# EAGLE library part MARDUINO_D8-13 (library Arduino-shield-scaffolds)
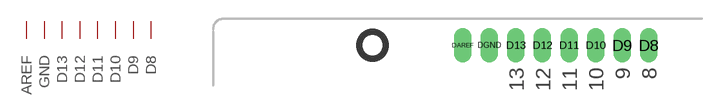
[diagram p2: symbol with the pads of MARDUINO_D8-AREF; footprint MARDUINO_D8-AREF]

Designator prefix -; gates G$1=ARDUINO-D8-13 G$2=ARDUINO-DGND G$3=ARDUINO-AREF

## MARDUINO_D8-13  [MARDUINO_D8-AREF]
D8  G$1:D8
D9  G$1:D9
D10  G$1:D10
D11  G$1:D11
D12  G$1:D12
D13  G$1:D13
DAREF  G$3:AREF  pas
DGND  G$2:GND  pwr

## Footprint MARDUINO_D8-AREF (pad centres in mm)
Arduino Modular Shield Scaffold Digital pins 8..15, AREF and GND
drill 1.1 long: D8 41.656,50.8; D9 39.116,50.8; D10 36.576,50.8; D11 34.036,50.8; D12 31.496,50.8; D13 28.956,50.8; DAREF 23.876,50.8; DGND 26.416,50.8